# Altium schematic symbol library ESC32.SCHLIB: 27 symbols
Pins are listed as number, name and electrical type; pins without a type are passive.

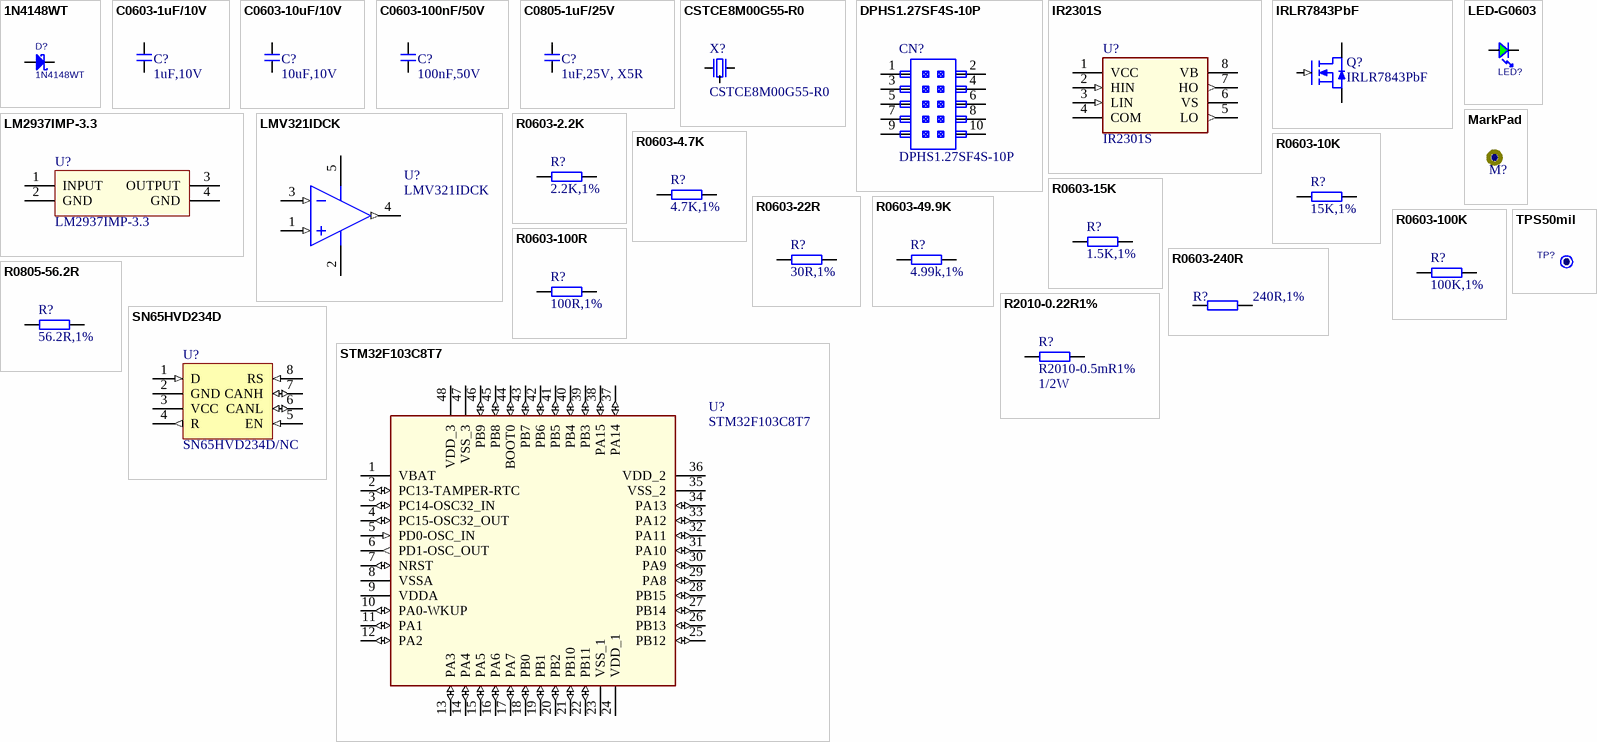
[diagram p0: symbols 1N4148WT to TPS50mil]

## 1N4148WT
designator D?
SURFACE MOUNT FAST SWITCHING DIODE; Mfr: DIODES; TOPMARK: T4
footprint DIOM1608X06N (Molded Diode, 2-Leads, Body 1.6x0.8mm, IPC Medium Density)
pins: 1 A, 2 K

## C0603-1uF/10V
designator C?  value 1uF,10V  (hidden comment: C0603-1uF/10V)
X5R,20%
footprint CAPC1608L (Chip Capacitor, Body 1.6x0.8mm, IPC High Density)
pins: 1, 2

## C0603-10uF/10V
designator C?  value 10uF,10V  (hidden comment: C0603-10uF/10V)
X5R,20%
footprint CAPC1608L (Chip Capacitor, Body 1.6x0.8mm, IPC High Density)
pins: 1, 2

## C0603-100nF/50V
designator C?  value 100nF,50V  (hidden comment: C0603-100nF/50V)
X7R
footprint CAPC1608L (Chip Capacitor, Body 1.6x0.8mm, IPC High Density)
pins: 1, 2

## C0805-1uF/25V
designator C?  value 1uF,25V, X5R  (hidden comment: C0805-1uF/25V)
X5R,20%; Mfr P/N: C2012X5R1E105K
footprint CAPC2012L (Chip Capacitor, Body 2.0x1.3mm, IPC High Density)
pins: 1, 2

## CSTCE8M00G55-R0
designator X?
footprint CSTCE_G
pins: 1, 2 GND, 3

## DPHS1.27SF4S-10P
designator CN?
1.27 间距表贴双排针, 40芯, PCB板高度为4.3mm
footprint DPHS1.27SF4S-10P (Footprint not found)
pins: 1, 2, 3, 4, 5, 6, 7, 8, 9 7, 10 6

## IR2301S
designator U?
footprint SOIC127P600X175-8L (SOIC, 8-Leads, Body 5.0x4.0mm (max), Pitch 1.27mm, IPC High Density)
pins: 1 VCC (power), 2 HIN (in), 3 LIN (in), 4 COM (power), 5 LO (out), 6 VS (power), 7 HO (out), 8 VB (power)

## IRLR7843PbF
designator Q?
footprint TO230P990X239-3N (D-PAK, 3-Pads, Body 6.2x6.7mm (max), IPC Medium Density)
pins: 1 G (in), 3 S (power), 4 D (power)

## LED-G0603
designator LED?, comment LED-R0603  (value not drawn)
LED发光二极管, 绿色, 0603封装
footprint LED-G0603 (表贴发光二极管, 0603封装, 体积1.6x0.8mm, 红色, 高度0.8mm)
pins: 1 A, 2 K

## LM2937IMP-3.3
designator U?
footprint SOT230P700X180-4N (SOT223, 4-Leads, Body 6.7x7.3mm (max), Pitch 2.30mm, IPC Medium Density)
pins: 1 INPUT (power), 2 GND (power), 3 OUTPUT (power), 4 GND (power)

## LMV321IDCK
designator U?
footprint SOT65P210X110-5L(SC70) (SOT23, 5-Leads, Body 2.2x2.4mm (max), Pitch 0.65mm, IPC High Density)
pins: 1 IN1+ (in), 2 GND (power), 3 IN1- (in), 4 OUT1 (out), 5 V+ (power)

## MarkPad
designator M?  (value not drawn)  (no BOM)
mark, 标记芯片和板边位置
footprint MarkPad (芯片标记点)
pins: 1

## R0603-2.2K
designator R?  value 2.2K,1%  (hidden comment: R0603-2.2K)
2.2K,1%; Tolerance: 1%
footprint RESC1608L (Chip Resistor, Body 1.6x0.8mm, IPC High Density)
pins: 1, 2

## R0603-4.7K
designator R?  value 4.7K,1%  (hidden comment: R0603-4.7K)
4.7K,1%; Tolerance: 1%
footprint RESC1608L (Chip Resistor, Body 1.6x0.8mm, IPC High Density)
pins: 1, 2

## R0603-10K
designator R?, comment value 15K,1%  (hidden comment: R0603-15K)
10K,1%; Tolerance: 1%
footprint RESC1608L (Chip Resistor, Body 1.6x0.8mm, IPC High Density)
pins: 1, 2

## R0603-15K
designator R?, comment value 1.5K,1%  (hidden comment: R0603-1.5K)
15K,1%; Tolerance: 1%
footprint RESC1608L (Chip Resistor, Body 1.6x0.8mm, IPC High Density)
pins: 1, 2

## R0603-22R
designator R?, comment value 30R,1%  (hidden comment: R0603-30R)
22R,1%; Tolerance: 1%
footprint RESC1608L (Chip Resistor, Body 1.6x0.8mm, IPC High Density)
pins: 1, 2

## R0603-49.9K
designator R?, comment value 4.99k,1%  (hidden comment: R0603-4.99k)
4.99k,1%; Tolerance: 1%
footprint RESC1608L (Chip Resistor, Body 1.6x0.8mm, IPC High Density)
pins: 1, 2

## R0603-100K
designator R?  value 100K,1%  (hidden comment: R0603-100K)
100K,1%; Tolerance: 1%
footprint RESC1608L (Chip Resistor, Body 1.6x0.8mm, IPC High Density)
pins: 1, 2

## R0603-100R
designator R?  value 100R,1%  (hidden comment: R0603-100R)
100R,1%; Tolerance: 1%
footprint RESC1608L (Chip Resistor, Body 1.6x0.8mm, IPC High Density)
pins: 1, 2

## R0603-240R
designator R?  value 240R,1%  (hidden comment: R0603-240R)
240R,1%; Tolerance: 1%
footprint RESC1608L (Chip Resistor, Body 1.6x0.8mm, IPC High Density)
pins: 1, 2

## R0805-56.2R
designator R?  value 56.2R,1%  (hidden comment: R0805-56.2R)
56.2R,1%; Tolerance: -
footprint RESC2012L (Chip Resistor, Body 2.0x1.3mm, IPC High Density)
pins: 1, 2

## R2010-0.22R1%
designator R?, comment R2010-0.5mR1%  功?: 1/2W
Vishay WSL功率型电阻; 器?: -; 制?: Vishay
footprint RC2010-5025X07N (表贴电阻, 2引脚, 长x宽为 5.0x2.5mm, 中密度)
pins: 1, 2

## SN65HVD234D
designator U?, comment SN65HVD234D/NC
3.3-V CAN TRANSCEIVERS
footprint SOIC127P600X175-8M (SOIC, 8-Leads, Body 5.0x4.0mm (max), Pitch 1.27mm, IPC Low Density)
pins: 1 D (in), 2 GND (power), 3 VCC (power), 4 R (out), 5 EN (in), 6 CANL (io), 7 CANH (io), 8 RS (in)

## STM32F103C8T7
designator U?
footprint TSQFP50P900X900X160-48L (TSQFP, 48-Leads, Body 9.0x9.0mm (max), Pitch 0.50mm, IPC High Density)
pins: 1 VBAT (power), 2 PC13-TAMPER-RTC (io), 3 PC14-OSC32_IN (io), 4 PC15-OSC32_OUT (io), 5 PD0-OSC_IN (in), 6 PD1-OSC_OUT (out), 7 NRST (io), 8 VSSA (power), 9 VDDA (power), 10 PA0-WKUP (io), 11 PA1 (io), 12 PA2 (io), 13 PA3 (io), 14 PA4 (io), 15 PA5 (io), 16 PA6 (io), 17 PA7 (io), 18 PB0 (io), 19 PB1 (io), 20 PB2 (io), 21 PB10 (io), 22 PB11 (io), 23 VSS_1 (power), 24 VDD_1 (power), 25 PB12 (io), 26 PB13 (io), 27 PB14 (io), 28 PB15 (io), 29 PA8 (io), 30 PA9 (io), 31 PA10 (io), 32 PA11 (io), 33 PA12 (io), 34 PA13 (io), 35 VSS_2 (power), 36 VDD_2 (power), 37 PA14 (io), 38 PA15 (io), 39 PB3 (io), 40 PB4 (io), 41 PB5 (io), 42 PB6 (io), 43 PB7 (io), 44 BOOT0 (io), 45 PB8 (io), 46 PB9 (io), 47 VSS_3 (power), 48 VDD_3 (power)

## TPS50mil
designator TP?  (value not drawn)  (no BOM)
Test Point, 12x25mil, Not Populated
footprint TPS50mil (Footprint not found)
footprint TPS25MIL
footprint TPS1.5mm
pins: 1